# EAGLE library part TPS2553DBV (library misc)
Precision Adjustable Current-Limited Power-Distribution Switches
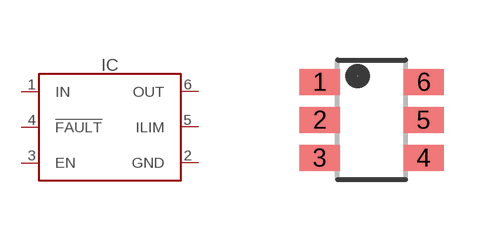
[diagram p53: symbol with the pads of SOT23-6; footprint SOT23-6]

Designator prefix IC

## TPS2553DBV (MANF: Texas Instruments; MANF#: TPS2553DBV)  [SOT23-6]
1  IN  pas
2  GND  pas
3  EN  in
4  !FAULT  oc
5  ILIM  pas
6  OUT  pas

## Footprint SOT23-6 (pad centres in mm)
smd 1 x 0.65: 1 -1.3,0.95; 2 -1.3,0; 3 -1.3,-0.95; 4 1.3,-0.95; 5 1.3,0; 6 1.3,0.95